# Altium footprint library PCB_Lib.PcbLib: 296 footprints (part 16 of 19)
Each footprint in its own frame and in the unit in brackets; x right, y up, seen from the top. Pads: shape width x height; smd on the part's side, far side on the other; paste and mask are expansions set on the pad; w line width, h text height; cw(c..) or ccw(c..) is an arc to the next point about the centre after c.
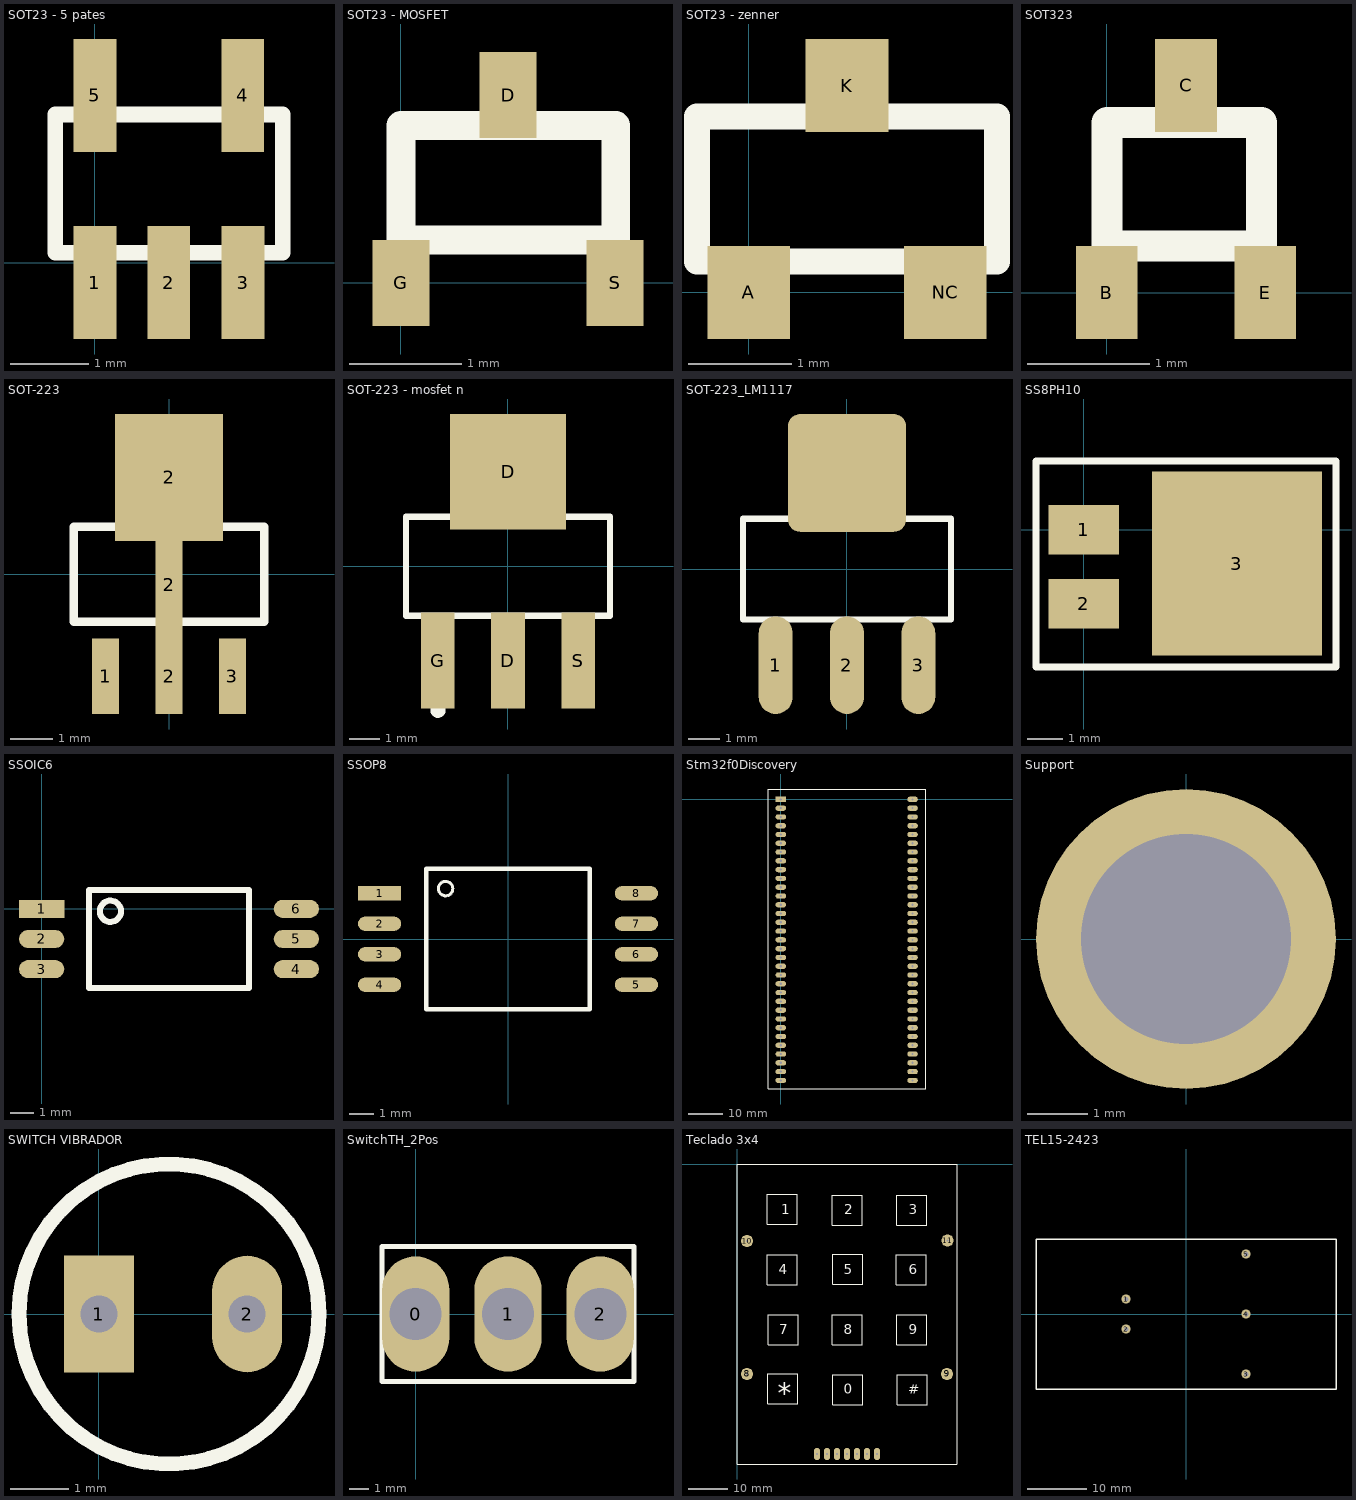
[diagram p15: the footprints below, top view; thin cyan lines are the x and y axes]

## SOT23 - 5 pates [mm]
pads (5):
  rect 0.55x1.45 smd: 1(0,-0.254) 2(0.95,-0.254) 3(1.905,-0.254) 4(1.9,2.15) 5(0,2.15)
Top Overlay:
  lines w0.2: -0.508,0.127 -0.508,1.905 2.413,1.905 2.413,0.127 -0.508,0.127

## SOT23 - MOSFET [mil] "Transistor SMD"
pads (3):
  rect 20x30 smd: D(37.4,65.62) G(0,0) S(74.8,0)
Top Overlay:
  lines w10: 0,15 0,55 75,55 75,15 35,15 0,15

## SOT23 - zenner [mm] "Transistor SMD"
pads (3):
  rect 0.8x0.9 smd: A(0,0) K(0.95,2) NC(1.9,0)
Top Overlay:
  lines w0.254: -0.5,0.3 2.4,0.3 2.4,1.7 -0.5,1.7 -0.5,0.3

## SOT323 [mil] "SOT 23 más chico"
pads (3):
  rect 20x30 smd: B(0,0) C(25.59,66.93) E(51.18,0)
Top Overlay:
  lines w10: 0,15 35,15 50,15 50,35 50,55 0,55 0,15

## SOT-223 [mil] "SOT-223/SC-73; 4 Leads; Body 6.7 x 7.3 mm, inc. leads (LxW max)"
height 70.87
pads (5):
  rect 25x70 smd paste+0: 1(-59.06,-95)
  rect 25x70 smd: 2(0,-95) 3(59.06,-95)
  rect 25x100 smd: 2(0,-10)
  rect 100x118.11 smd: 2(0,90)
Top Overlay:
  lines w7.87: -88.58,-44.29 88.58,-44.29 88.58,44.29 -88.58,44.29 -88.58,-44.29

## SOT-223 - mosfet n [mm] "SOT-223/SC-73; 4 Leads; Body 6.7 x 7.3 mm, inc. leads (LxW max)"
height 1.8
pads (4):
  rect 1.1x3.15 smd: D(0,-3.1) G(-2.3,-3.1) S(2.3,-3.1)
  rect 3.8x3.8 smd: D(0,3.1)
Top Overlay:
  circle w0.25: c-2.3,-4.725 r0.125
  lines w0.2: -3.35,-1.625 -3.35,1.625 3.35,1.625 3.35,-1.625 -3.35,-1.625

## SOT-223_LM1117 [mm] "SOT-223/SC-73; 4 Leads; Body 6.7 x 7.3 mm, inc. leads (LxW max)"
height 1.8
pads (4):
  oval 1.1x3.15 smd: 1(-2.3,-3.1) 2(0,-3.1) 3(2.3,-3.1)
  rrect20% 3.8x3.8 smd: ""(0,3.1)
Top Overlay:
  lines w0.2: -3.35,-1.625 -3.35,1.625 3.35,1.625 3.35,-1.625 -3.35,-1.625

## SS8PH10 [mm]
pads (3):
  rect 2x1.4 smd: 1(0,0) 2(0,-2.08)
  rect 4.8x5.2 smd: 3(4.325,-0.95)
Top Overlay:
  lines w0.2: -1.35,-3.875 -1.35,1.95 7.125,1.95 7.125,-3.875 -1.35,-3.875

## SSOIC6 [mm] "Circuito de 6 patas SMD"
height 2.54
pads (6):
  rect 1.91x0.762 smd: 1(0,0)
  oval 1.91x0.762 smd: 2(0,-1.27) 3(0,-2.54) 4(10.74,-2.54) 5(10.74,-1.27) 6(10.74,0)
Top Overlay:
  circle w0.254: c2.9,-0.1 r0.447
  lines w0.254: 2,-3.34 8.74,-3.34 8.74,0.8 2,0.8 2,-3.34

## SSOP8 [mm]
pads (8):
  rect 1.8x0.6 smd: 1(-5.35,1.905)
  oval 1.8x0.6 smd: 2(-5.35,0.635) 3(-5.35,-0.635) 4(-5.35,-1.905) 5(5.35,-1.905) 6(5.35,-0.635) 7(5.35,0.635) 8(5.35,1.905)
Top Overlay:
  circle w0.127: c-2.6,2.1 r0.3
  lines w0.2: -3.404,-2.925 -3.404,2.925 3.404,2.925 3.404,-2.925 -3.404,-2.925

## Stm32f0Discovery [mil]
pads (66):
  rect 120x60 hole 25: 1(0,0)
  oval 120x60 hole 25: 2(0,-100) 3(0,-200) 4(0,-300) 5(0,-400) 6(0,-500) 7(0,-600) 8(0,-700) 9(0,-800) 10(0,-900) 11(0,-1000) 12(0,-1100) 13(0,-1200) 14(0,-1300) 15(0,-1400) 16(0,-1500) 17(0,-1600) 18(0,-1700) 19(0,-1800) 20(0,-1900) 21(0,-2000) 22(0,-2100) 23(0,-2200) 24(0,-2300) 25(0,-2400) 26(0,-2500) 27(0,-2600) 28(0,-2700) 29(0,-2800) 30(0,-2900) 31(0,-3000) 32(0,-3100) 33(0,-3200) 34(1500,-3200) 35(1500,-3100) 36(1500,-3000) 37(1500,-2900) 38(1500,-2800) 39(1500,-2700) 40(1500,-2600) 41(1500,-2500) 42(1500,-2400) 43(1500,-2300) 44(1500,-2200) 45(1500,-2100) 46(1500,-2000) 47(1500,-1900) 48(1500,-1800) 49(1500,-1700) 50(1500,-1600) 51(1500,-1500) 52(1500,-1400) 53(1500,-1300) 54(1500,-1200) 55(1500,-1100) 56(1500,-1000) 57(1500,-900) 58(1500,-800) 59(1500,-700) 60(1500,-600) 61(1500,-500) 62(1500,-400) 63(1500,-300) 64(1500,-200) 65(1500,-100) 66(1500,0)
Top Overlay:
  lines w10: -144,-3298 -144,118 1651,118 1649.98,-3298 -144,-3298

## Support [mm]
pads (1):
  round 5 hole 3.5: ""(0,0)

## SWITCH VIBRADOR [mm]
pads (2):
  rect 1.2x2 hole 0.635: 1(0,0)
  oval 1.2x2 hole 0.635: 2(2.54,0)
Top Overlay:
  circle w0.254: c1.2,0 r2.571

## SwitchTH_2Pos [mm]
pads (3):
  oval 3.5x6 hole 2.7: 0(0,0) 1(4.8,0) 2(9.6,0)
Top Overlay:
  lines w0.254: -1.75,-3.5 11.35,-3.5 11.35,3.5 -1.75,3.5 -1.75,-3.5

## Teclado 3x4 [mil]
height 100
pads (11):
  oval 60x120 hole 20: 1(800,-2900) 2(900,-2900) 3(1000,-2900) 4(1100,-2900) 5(1200,-2900) 6(1300,-2900) 7(1400,-2900)
  round 120 hole 20: 8(100,-2100) 9(2100,-2100) 10(100,-770) 11(2105,-765)
Top Overlay:
  lines w10: 0,-3000 0,0 2200,0 2200,-2995 2195,-3000 0,-3000 ; 300,-1205 600,-1205 600,-905 300,-905 300,-1010 300,-1205 ; 300,-600 600,-600 600,-300 300,-300 300,-405 300,-600 ; 305,-2400 605,-2400 605,-2100 305,-2100 305,-2205 305,-2400 ; 310,-1805 610,-1805 610,-1505 310,-1505 310,-1610 310,-1805 ; 950,-1805 1250,-1805 1250,-1505 950,-1505 950,-1610 950,-1805 ; 950,-610 1250,-610 1250,-310 950,-310 950,-415 950,-610 ; 955,-2410 1255,-2410 1255,-2110 955,-2110 955,-2215 955,-2410 ; 955,-1200 1255,-1200 1255,-900 955,-900 955,-1005 955,-1200 ; 1595,-1205 1895,-1205 1895,-905 1595,-905 1595,-1010 1595,-1205 ; 1600,-1805 1900,-1805 1900,-1505 1600,-1505 1600,-1610 1600,-1805 ; 1600,-610 1900,-610 1900,-310 1600,-310 1600,-415 1600,-610 ; 1605,-2410 1905,-2410 1905,-2110 1605,-2110 1605,-2215 1605,-2410
  text "1" at 440,-500 h100
  text "2" at 1070,-500 h100
  text "3" at 1720,-500 h100
  text "4" at 415,-1100 h100
  text "5" at 1065,-1100 h100
  text "6" at 1720,-1100 h100
  text "9" at 1720,-1700 h100
  text "8" at 1065,-1700 h100
  text "7" at 420,-1700 h100
  text "*" at 405,-2390 h200
  text "0" at 1065,-2300 h100
  text "#" at 1715,-2300 h100

## TEL15-2423 [mil]
height 401.57
pads (5):
  round 60 hole 30: 1(-400,100) 2(-400,-100) 3(400,-400) 4(400,0) 5(400,400)
Top Overlay:
  lines w10: -1000,-500 -1000,500 1000,500 1000,-500 -1000,-500